# Altium schematic symbol library 2.3 - 射频芯片.SchLib: 5 symbols
Pins are listed as number, name and electrical type; pins without a type are passive.

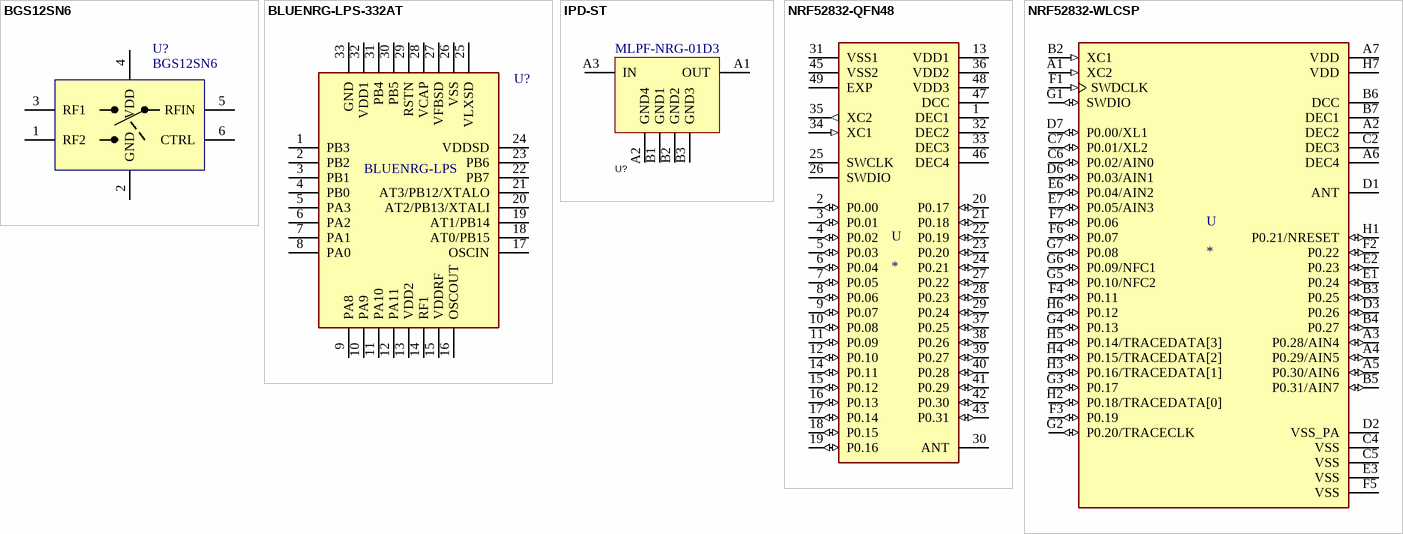
[diagram p0: symbols BGS12SN6 to NRF52832-WLCSP]

## BGS12SN6
designator U?
DC switch - Ultra-Low  SPDT analog switch; Manufacturer: INFINEON; Manufacturer_Part_Number: BGS12SN6
footprint DFN6 0.7x1.1_N (SON, 6-Leads, Body 1.10x0.70mm, Pitch 0.40mm)
pins: 1 RF2, 2 GND, 3 RF1, 4 VDD, 5 RFIN, 6 CTRL

## BLUENRG-LPS-332AT
designator U?, comment BLUENRG-LPS
-40 to +105 C temperature range from a 1.7 V to 3.6 V power supply.; Manufacturer_Name: STMicroelectronics; Geometry.Height: 1mm; Manufacturer_Part_Number: BLUENRG-LPS; Mouser Part Number: *; Mouser Price/Stock: *; Arrow Part Number: *; Arrow Price/Stock: *; Datasheet Link: https://www.st.com/resource/en/datasheet/bluenrg-lps.pdf
footprint QFN32 5x5_L (32脚，长x宽x高：5x5x0.95mm，脚距：0.5mm)
footprint QFN32 5x5_M (32脚，长x宽x高：5x5x0.95mm，脚距：0.5mm)
footprint QFN32 5x5_N (32脚，长x宽x高：5x5x0.95mm，脚距：0.5mm)
pins: 1 PB3, 2 PB2, 3 PB1, 4 PB0, 5 PA3, 6 PA2, 7 PA1, 8 PA0, 9 PA8, 10 PA9, 11 PA10, 12 PA11, 13 VDD2, 14 RF1, 15 VDDRF, 16 OSCOUT, 17 OSCIN, 18 AT0/PB15, 19 AT1/PB14, 20 AT2/PB13/XTALI, 21 AT3/PB12/XTALO, 22 PB7, 23 PB6, 24 VDDSD, 25 VLXSD, 26 VSS, 27 VFBSD, 28 VCAP, 29 RSTN, 30 PB5, 31 PB4, 32 VDD1, 33 GND

## IPD-ST
designator U?, comment MLPF-NRG-01D3
射频滤波器集成芯片; Manufacturer: ST(意法半导体); Add into BOM: yes; Bandwidth: 100MHz; Filter Type: 低通; Insertion Loss: 1.1dB; Name: MLPF-NRG-01D3; Symbol: MLPF-NRG-01D3; Device: MLPF-NRG-01D3; LCSC Part Name: MLPF-NRG-01D3; Supplier Part: C5270478; Manufacturer Part: MLPF-NRG-01D3; Supplier Footprint: -; JLCPCB Part Class: Extended Part; Datasheet: https://atta.szlcsc.com/upload/public/pdf/source/20230906/DAE6EEA1E333A524E5DA29B531F246B3.pdf; Supplier: LCSC; Convert to PCB: yes
footprint DSBGA-6_L1.5-W1.0-R3-C2-P0.40-TL (ST公司的I滤波产品通用封装)
pins: A1 OUT, A2 GND4, A3 IN, B1 GND1, B2 GND2, B3 GND3

## NRF52832-QFN48
designator U
IC RF TxRx + MCU Bluetooth, General ISM > 1GHz ANT, Bluetooth v5.0 2.4GHz 48-VFQFN Exposed Pad; MP: NRF52832-QFAA-R; MF: Nordic; SnapEDA_Link: https://www.snapeda.com/parts/NRF52832-QFAA-R/Nordic%20Semiconductor%20ASA/view-part/279951/?ref=snap; Digi-Key_Purchase_URL: https://www.digikey.com/product-detail/en/nordic-semiconductor-asa/NRF52832-QFAA-R/1490-1052-1-ND/5428660?utm_source=snapeda&utm_medium=aggregator&utm_campaign=symbol; Value: *; Package: VFQFN-48 Nordic; Digi-Key_Part_Number: 1490-1052-1-ND
footprint QFN48 6X6_N (QFN, 48-Leads, Body 6,0x6,0mm (max), Pitch 0,40mm, IPC Medium Density)
pins: 1 DEC1 (power), 2 P0.00 (io), 3 P0.01 (io), 4 P0.02 (io), 5 P0.03 (io), 6 P0.04 (io), 7 P0.05 (io), 8 P0.06 (io), 9 P0.07 (io), 10 P0.08 (io), 11 P0.09 (io), 12 P0.10 (io), 13 VDD1 (power), 14 P0.11 (io), 15 P0.12 (io), 16 P0.13 (io), 17 P0.14 (io), 18 P0.15 (io), 19 P0.16 (io), 20 P0.17 (io), 21 P0.18 (io), 22 P0.19 (io), 23 P0.20 (io), 24 P0.21 (io), 25 SWCLK, 26 SWDIO, 27 P0.22 (io), 28 P0.23 (io), 29 P0.24 (io), 30 ANT, 31 VSS1 (power), 32 DEC2 (power), 33 DEC3 (power), 34 XC1 (in), 35 XC2 (out), 36 VDD2 (power), 37 P0.25 (io), 38 P0.26 (io), 39 P0.27 (io), 40 P0.28 (io), 41 P0.29 (io), 42 P0.30 (io), 43 P0.31 (io), 45 VSS2 (power), 46 DEC4 (power), 47 DCC (power), 48 VDD3 (power), 49 EXP (power)

## NRF52832-WLCSP
designator U
IC RF TxRx + MCU General ISM > 1GHZ ANT, Bluetooth v5.0 2.4GHz 50-XFBGA, WLCSP; MP: NRF52832-CIAA-R; MF: Nordic; Value: *; SnapEDA_Link: https://www.snapeda.com/parts/NRF52832-CIAA-R/Nordic%20Semiconductor%20ASA/view-part/548162/?ref=snap; Availability: Unavailable; Package: XFBGA-50 Nordic Semiconductor; Price: None
footprint BGA50 (N40P7X8_300X320X40)
pins: A1 XC2 (in), A2 DEC2 (power), A3 P0.28/AIN4 (io), A4 P0.29/AIN5 (io), A5 P0.30/AIN6 (io), A6 DEC4 (power), A7 VDD (power), B2 XC1 (in), B3 P0.25 (io), B4 P0.27 (io), B5 P0.31/AIN7 (io), B6 DCC (power), B7 DEC1 (power), C2 DEC3 (power), C4 VSS (power), C5 VSS (power), C6 P0.02/AIN0 (io), C7 P0.01/XL2 (io), D1 ANT, D2 VSS_PA (power), D3 P0.26 (io), D6 P0.03/AIN1 (io), D7 P0.00/XL1 (io), E1 P0.24 (io), E2 P0.23 (io), E3 VSS (power), E6 P0.04/AIN2 (io), E7 P0.05/AIN3 (io), F1 SWDCLK (in), F2 P0.22 (io), F3 P0.19 (io), F4 P0.11 (io), F5 VSS (power), F6 P0.07 (io), F7 P0.06 (io), G1 SWDIO (io), G2 P0.20/TRACECLK (io), G3 P0.17 (io), G4 P0.13 (io), G5 P0.10/NFC2 (io), G6 P0.09/NFC1 (io), G7 P0.08 (io), H1 P0.21/NRESET (io), H2 P0.18/TRACEDATA[0] (io), H3 P0.16/TRACEDATA[1] (io), H4 P0.15/TRACEDATA[2] (io), H5 P0.14/TRACEDATA[3] (io), H6 P0.12 (io), H7 VDD (power)